# EAGLE library part 613022243121 (library Wuerth_Elektronik_eiCan_Pin_&_Socked_Headers_v1.3)
WR-PHD Angled Dual Socket Header, 22 Pins
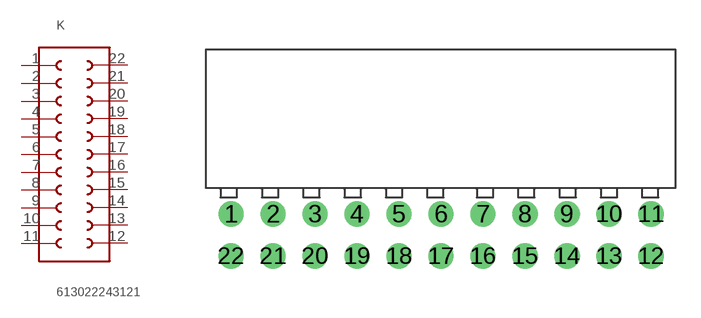
[diagram p174: symbol with the pads of 613022243121; footprint 613022243121]

Designator prefix K

## 613022243121  [613022243121]
1  1  pas
2  2  pas
3  3  pas
4  4  pas
5  5  pas
6  6  pas
7  7  pas
8  8  pas
9  9  pas
10  10  pas
11  11  pas
12  12  pas
13  13  pas
14  14  pas
15  15  pas
16  16  pas
17  17  pas
18  18  pas
19  19  pas
20  20  pas
21  21  pas
22  22  pas

## Footprint 613022243121 (pad centres in mm)
WR-PHD Angled Dual Socket Header, 22 Pins
drill 1.02 round: 1 -22.86,0; 2 -20.32,0; 3 -17.78,0; 4 -15.24,0; 5 -12.7,0; 6 -10.16,0; 7 -7.62,0; 8 -5.08,0; 9 -2.54,0; 10 0,0; 11 2.54,0; 12 2.54,-2.54; 13 0,-2.54; 14 -2.54,-2.54; 15 -5.08,-2.54; 16 -7.62,-2.54; 17 -10.16,-2.54; 18 -12.7,-2.54; 19 -15.24,-2.54; 20 -17.78,-2.54; 21 -20.32,-2.54; 22 -22.86,-2.54